# Altium schematic symbol library PPTC051LFBN-RC.SchLib: 1 symbol
Pins are listed as number, name and electrical type; pins without a type are passive.

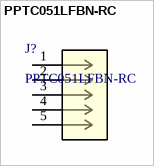
[diagram p0: symbol PPTC051LFBN-RC]

## PPTC051LFBN-RC
designator J?
No Description Available; Mfr_Name: Sullins; Copyright: Copyright (C) 2023 Ultra Librarian. All rights reserved.; Manufacturer_Part_Number: PPTC051LFBN-RC; RefDes: RefDes; Type: DEV
footprint CONN5_1LFBN-RC_SUL
pins: 1, 2, 3, 4, 5